# EAGLE library part M22-2510605 (library M22-2510605)
Headers & Wire Housings 6 PIN SIL VERTICAL GOLD PIN HEADER M22 Connectors Source: Datasheet <https://cdn.harwin.com/pdfs/M22-251.pdf>
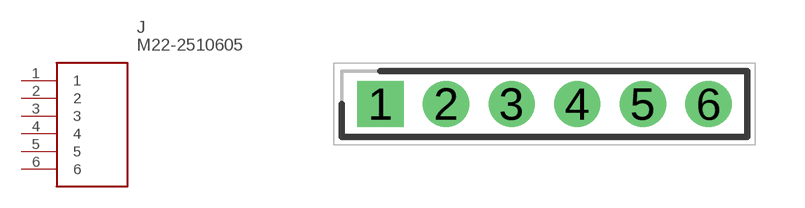
[diagram p0: symbol with the pads of HDRV6W50P0X200_1X6_1200X200X52; footprint HDRV6W50P0X200_1X6_1200X200X52]

Designator prefix J

## M22-2510605 (Arrow_Part_Number: M22-2510605; Description: Headers & Wire Housings 6 PIN SIL VERTICAL GOLD PIN HEADER M22 Connectors; Height: 5.25mm; Manufacturer_Name: Harwin; Manufacturer_Part_Number: M22-2510605; Mouser_Part_Number: 855-M22-2510605; Mouser_Price-Stock: https://www.mouser.co.uk/ProductDetail/Harwin/M22-2510605?qs=vF78I%252BjhbY8PunmFgVJpmQ%3D%3D)  [HDRV6W50P0X200_1X6_1200X200X52]
1  1
2  2
3  3
4  4
5  5
6  6

## Footprint HDRV6W50P0X200_1X6_1200X200X52 (pad centres in mm)
M22-2510605
drill 0.9 pad 1.35 square: 1 0,0
drill 0.9 pad 1.35: 2 2,0; 3 4,0; 4 6,0; 5 8,0; 6 10,0